# Altium schematic symbol library Swage.SchLib: 218 symbols (part 1 of 5)
Pins are listed as number, name and electrical type; pins without a type are passive.

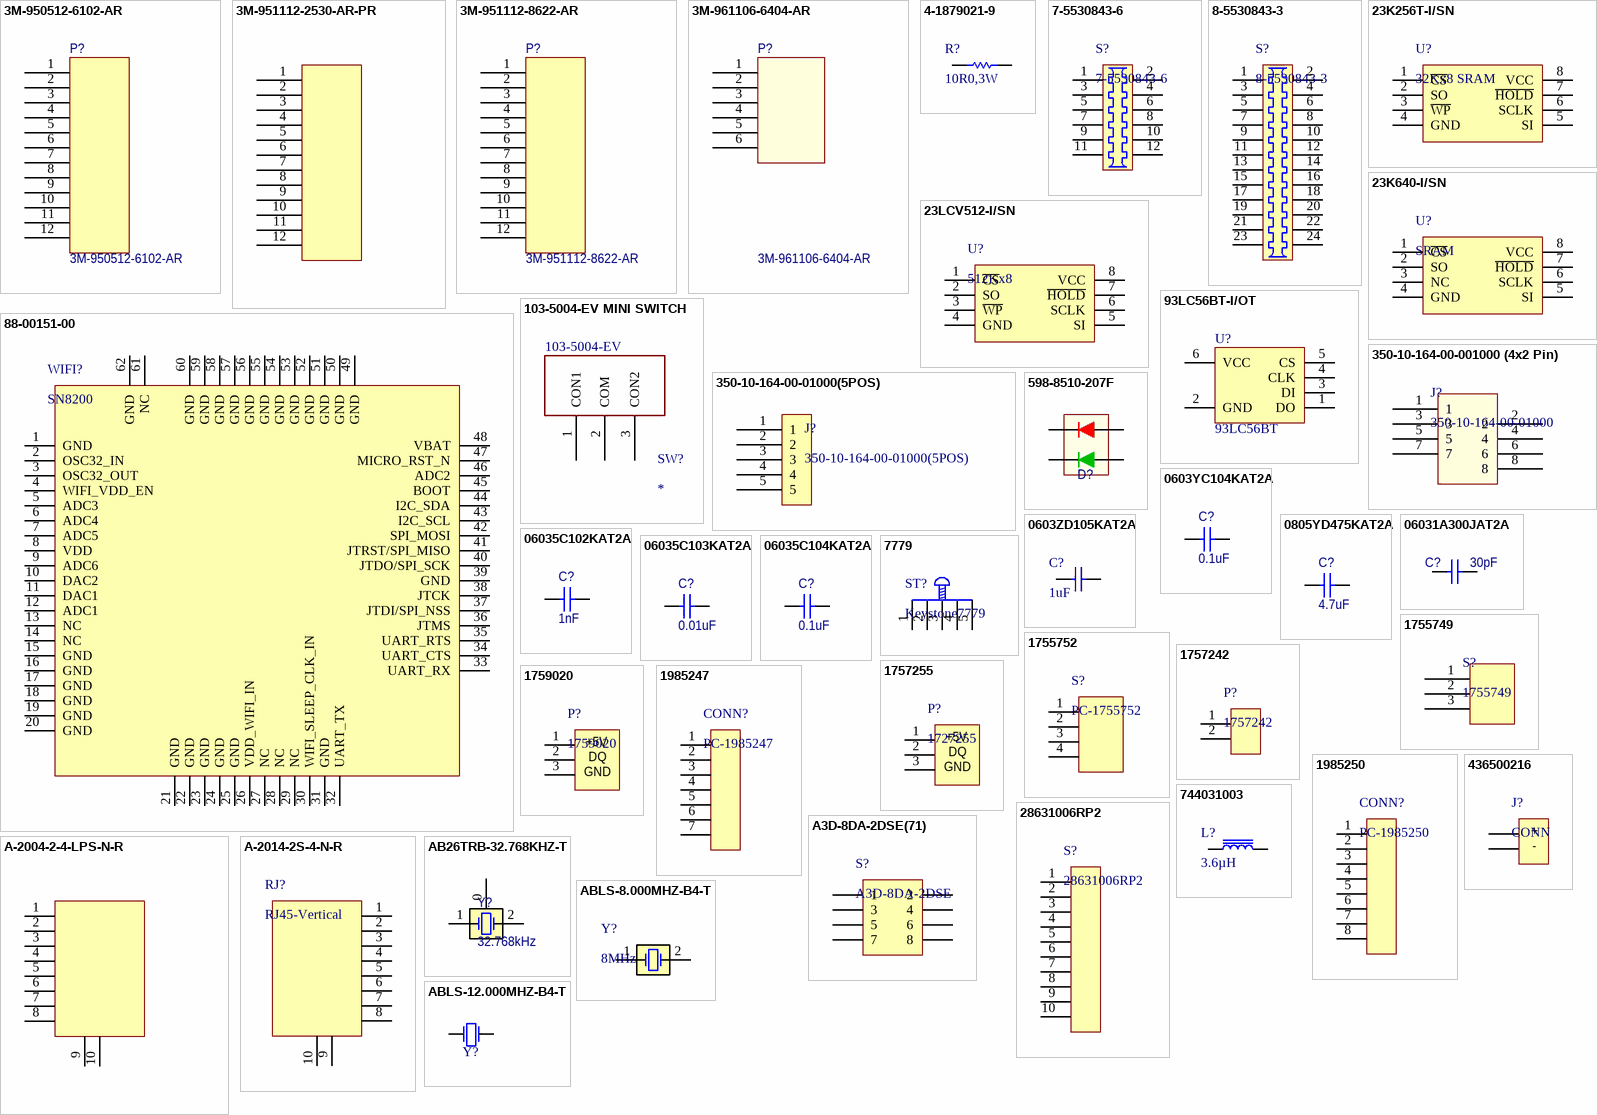
[diagram p0: symbols 3M-950512-6102-AR to ABLS-12.000MHZ-B4-T]

## 3M-950512-6102-AR
designator P?
CONN SOCKET 12POS 2MM VERT T/H; Manufacturer: 3M; Category 1: Connectors, Interconnects; Connector Type: Receptacle; Number of Positions: 12; Number of Positions Loaded: All; Pitch: 0.079" (2.00mm); OPI_VID: 101515; Supplier 1: Digi-Key; Supplier Part Number 1: 3M9406-ND; RoHS 1: RoHS Compliant; Description 1: CONN SOCKET 12POS 2MM VERT T/H; Stock 1: 2590; Pricing 1: 1=2.31, 25=1.9756, 50=1.8896, 100=1.8037, 250=1.63196, 500=1.50312, 1000=1.28839, 2500=1.2025, 5000=1.14237 (CAD); Packaging: Tube; Contact Type: Female Socket; Number of Rows: 1; Row Spacing: -; Mounting Type: Through Hole; Termination: Solder; Fastening Type: -; Features: -; Contact Finish: Gold; Contact Finish Thickness: Flash; Color: Black; ComponentLink1URL: http://multimedia.3m.com/mws/mediawebserver?66666UuZjcFSLXTtmXMEm8TaEVuQEcuZgVs6EVs6E666666--; ComponentLink1Description: http://multimedia.3m.com/mws/mediawebserver?66666UuZjcFSLXTtmXMEm8TaEVuQEcuZgVs6EVs6E666666--; Manufacturer Part Number: 950512-6102-AR
footprint HEADER1X12-2MM (Connector, Header, Male, 2mm pitch)
pins: 1, 2, 3, 4, 5, 6, 7, 8, 9, 10, 11, 12

## 3M-951112-2530-AR-PR
designator P?
CONN HEADER 12POS 2MM VERT SMD; Manufacturer: 3M; Connector Type: Header, Unshrouded; Number of Positions: 12; Number of Positions Loaded: All; Pitch: 0.079" (2.00mm); OPI_VID: xxxxx; Supplier 1: Digi-Key; Supplier Part Number 1: 3M9345TR-ND; Manufacturer Part Number: 951112-2530-AR-PR; RoHS: RoHS Compliant; Category: Connectors, Interconnects; Stock 1: 500; Pricing 1: 500=1.3908, 1000=1.19211, 1500=1.15237, 2500=1.11264, 5000=1.05701, 12500=1.03316 (CAD); Packaging: Tape & Reel (TR); Contact Type: Male Pin; Number of Rows: 1; Row Spacing: -; Contact Mating Length: 0.157" (4.00mm); Mounting Type: Surface Mount; Termination: Solder; Fastening Type: -; Features: -; Contact Finish: Gold; Contact Finish Thickness: Flash; Color: Black; ComponentLink1URL: http://multimedia.3m.com/mws/mediawebserver?66666UuZjcFSLXTtmxTXmXfEEVuQEcuZgVs6EVs6E666666--; ComponentLink1Description: http://multimedia.3m.com/mws/mediawebserver?66666UuZjcFSLXTtmxTXmXfEEVuQEcuZgVs6EVs6E666666--
footprint HEADER1X12-2MM SMT (Connector, Header, 1x12 positions, Male, 2mm pitch, Surface Mount)
pins: 1, 2, 3, 4, 5, 6, 7, 8, 9, 10, 11, 12

## 3M-951112-8622-AR
designator P?
CONN HEADER 12POS 2MM VERT T/H; Manufacturer: 3M; Connector Type: Header, Unshrouded; Number of Positions: 12; Number of Positions Loaded: All; Pitch: 0.079" (2.00mm); OPI_VID: 101439; Supplier 1: Digi-Key; Supplier Part Number 1: 3M9330-ND; Manufacturer Part Number: 951112-8622-AR; RoHS: RoHS Compliant; Category: Connectors, Interconnects; Stock 1: 3694; Pricing 1: 1=0.85, 10=0.799, 25=0.7192, 50=0.6394, 100=0.6128, 250=0.55952, 500=0.53288, 1000=0.43962, 2500=0.39966 (CAD); Contact Type: Male Pin; Number of Rows: 1; Row Spacing: -; Contact Mating Length: 0.173" (4.40mm); Mounting Type: Through Hole; Termination: Solder; Fastening Type: -; Features: -; Contact Finish: Gold; Contact Finish Thickness: Flash; Color: Black; Packaging: Bulk; ComponentLink1URL: http://multimedia.3m.com/mws/mediawebserver?66666UuZjcFSLXTtmXMEmxMyEVuQEcuZgVs6EVs6E666666--; ComponentLink1Description: http://multimedia.3m.com/mws/mediawebserver?66666UuZjcFSLXTtmXMEmxMyEVuQEcuZgVs6EVs6E666666--
footprint HEADER1X12-2MM (Connector, Header, Male, 2mm pitch)
pins: 1, 2, 3, 4, 5, 6, 7, 8, 9, 10, 11, 12

## 3M-961106-6404-AR
designator P?
CONN HEADER 6POS 2MM VERT T/H; Manufacturer: 3M; Description 1: Headers & Wire Housings 6P STRT 1 ROW GOLD 5.5MM MATING PIN; Category 1: Headers & Wire Housings; Current Rating: 2 A; Mounting Angle: Straight; Brand: 3M Electronic Solutions Division; Pitch: 2.54 mm; Number of Positions / Contacts: 6; OPI_VID: 101440; Supplier 1: Mouser; Supplier Part Number 1: 517-9611066404AR; RoHS 1: RoHS Compliant; Stock 1: 1977; Pricing 1: 1=0.567, 100=0.404, 500=0.351, 1000=0.289, 2000=0.263, 5000=0.257, 10000=0.248, 25000=0.230 (AUD); Contact Plating: Gold; Housing Material: Thermoplastic; Number of Rows: 1; Operating Temperature Range: - 25 C to + 105 C; Series: 961; Termination Style: Through Hole; Type: Pin Strip; Contact Material: Copper Alloy; Mounting Style: -; Row Spacing: 2.54 mm; Contact Gender: Pin (Male); Product Category: .100" Pin Strip Headers; Product Type: Headers; Standard Pack Qty: 1600; RoHS - Mouser: Y; Minimum Order Quantity: 1; Reeling: False; ComponentLink1URL: http://www.mouser.com/ds/2/1/ts2181-30266.pdf; ComponentLink1Description: http://www.mouser.com/ds/2/1/ts2181-30266.pdf; Manufacturer Part Number: 961106-6404-AR
footprint HEADER1X6-2MM (Connector, Header, 1x6 positions, Male, 2mm pitch)
pins: 1 GND, 2 USB_5V, 3 HDMA, 4 HDPA, 5 GND, 6 OD_H

## 4-1879021-9
designator R?, comment 10R0,3W
RES 10.0 OHM 3W 5% SMD; Manufacturer: TE Connectivity; Manufacturer Part Number: 4-1879021-9; Resistance (Ohms): 10; Temperature Coefficient: ±200ppm/°C; OPI_VID: xxxxx; Supplier 1: Digi-Key; RoHS: RoHS Compliant; Category: Resistors; Stock 1: 5000; Pricing 1: 1000=0.23901, 2000=0.22672, 3000=0.21852, 5000=0.20486, 10000=0.19121, 25000=0.18165, 50000=0.17755 (CAD); Power (Watts): 3W; Composition: Wirewound; Features: -; Tolerance: ±5%; Package / Case: 4122 (10555 Metric), J-Lead; Supplier Device Package: SMD; Size / Dimension: 0.413" L x 0.217" W (10.50mm x 5.50mm); Height: 0.209" (5.30mm); Number of Terminations: 2; Packaging: Tape & Reel (TR); ComponentLink1URL: http://documents.tycoelectronics.com/commerce/DocumentDelivery/DDEController?Action=showdoc&DocId=Data+Sheet%7F1773242%7FC%7Fpdf%7FEnglish%7FENG_DS_1773242_C.pdf; ComponentLink1Description: http://documents.tycoelectronics.com/commerce/DocumentDelivery/DDEController?Action=showdoc&DocId=Data+Sheet%7F1773242%7FC%7Fpdf%7FEnglish%7FENG_DS_1773242_C.pdf; Supplier Part Number 1: A102104TR-ND
pins: 1, 2

## 7-5530843-6
designator S?
CONN EDGECARD 6POS .100 VERT; Manufacturer: TE Connectivity; Card Type: Multibus I; Gender: Female; Number of Positions: 12; Card Thickness: 0.054" ~ 0.070" (1.37mm ~ 1.78mm); Pitch: 0.100" (2.54mm); Material - Insulation: Polyester, Glass Filled; Read Out: Dual; OPI_VID: 101359; Supplier 1: Digi-Key; Manufacturer Part Number: 7-5530843-6; RoHS: RoHS Compliant; Category: Connectors, Interconnects; Stock 1: 2145; Pricing 1: 1=2.55, 10=2.316, 25=2.1748, 50=2.08, 100=1.9855, 250=1.79636, 500=1.65458, 1000=1.41821, 2500=1.32366 (CAD); Number of Positions/Bay/Row: -; Number of Rows: 2; Features: -; Mounting Type: Through Hole; Termination: Solder; Contact Material: Phosphor Bronze; Contact Finish: Gold; Contact Finish Thickness: 30µin (0.76µm); Contact Type: -; Color: Black; Packaging: Bulk; Flange Feature: -; Operating Temperature: -55°C ~ 85°C; ComponentLink1URL: http://www.te.com/commerce/DocumentDelivery/DDEController?Action=srchrtrv&DocNm=5530843&DocType=Customer+Drawing&DocLang=English; ComponentLink1Description: http://www.te.com/commerce/DocumentDelivery/DDEController?Action=srchrtrv&DocNm=5530843&DocType=Customer+Drawing&DocLang=English; Supplier Part Number 1: 7-5530843-6-ND
footprint EdgeConnector-6-12 (Connector, Edge, 2x6, PTH)
pins: 1  , 2  , 3  , 4  , 5  , 6  , 7  , 8  , 9  , 10  , 11  , 12  

## 8-5530843-3
designator S?
CONN SEC II 12 POS 100C/L; Manufacturer: TE Connectivity; Card Type: Multibus I; Gender: Female; Number of Positions: 24; Card Thickness: 0.054" ~ 0.070" (1.37mm ~ 1.78mm); Pitch: 0.100" (2.54mm); Material - Insulation: Polyester, Glass Filled; Read Out: Dual; OPI_VID: 101411; Supplier 1: Digi-Key; Manufacturer Part Number: 8-5530843-3; RoHS: RoHS Compliant; Category: Connectors, Interconnects; Stock 1: 652; Pricing 1: 1=1.74, 10=1.579, 50=1.4176, 100=1.3531, 250=1.22424, 500=1.12758, 1000=0.9665, 2500=0.90206, 5000=0.85696 (USD); Number of Positions/Bay/Row: -; Number of Rows: 2; Features: -; Mounting Type: Through Hole; Termination: Solder; Contact Material: Phosphor Bronze; Contact Finish: Gold; Contact Finish Thickness: 30µin (0.76µm); Contact Type: -; Color: Black; Packaging: Bulk; Flange Feature: -; Operating Temperature: -55°C ~ 85°C; ComponentLink1URL: http://www.te.com/commerce/DocumentDelivery/DDEController?Action=srchrtrv&DocNm=5530843&DocType=Customer+Drawing&DocLang=English; ComponentLink1Description: http://www.te.com/commerce/DocumentDelivery/DDEController?Action=srchrtrv&DocNm=5530843&DocType=Customer+Drawing&DocLang=English; Supplier Part Number 1: A101969-ND
footprint EdgeConnector-12-24 - duplicate (Connector, Edge, 2x12, PTH)
pins: 1, 2  , 3  , 4  , 5  , 6  , 7  , 8  , 9  , 10  , 11  , 12  , 13  , 14  , 15  , 16  , 17  , 18  , 19  , 20  , 21  , 22  , 23  , 24  

## 23K256T-I/SN
designator U?, comment 32Kx8 SRAM
IC SRAM 256KBIT 20MHZ 8SOIC; Manufacturer: Microchip Technology; Manufacturer Part Number: 23K256T-I/SN; Format - Memory: RAM; Memory Size: 256K (32K x 8); Interface: SPI Serial; Voltage - Supply: 2.7 V ~ 3.6 V; OPI_VID: 101391; Supplier 1: Digi-Key; RoHS: RoHS Compliant; Category: Integrated Circuits (ICs); Stock 1: 0; Pricing 1: 3300=1.10025 (CAD); Memory Type: SRAM; Speed: 20MHz; Operating Temperature: -40°C ~ 85°C; Package / Case: 8-SOIC (0.154", 3.90mm Width); Supplier Device Package: 8-SOIC N; Packaging: Tape & Reel (TR); ComponentLink1URL: http://ww1.microchip.com/downloads/en/DeviceDoc/22100F.pdf; ComponentLink1Description: http://ww1.microchip.com/downloads/en/DeviceDoc/22100F.pdf; Supplier Part Number 1: 23K256T-I/SN-ND
pins: 1 ~{CS}, 2 SO, 3 ~{WP}, 4 GND, 5 SI, 6 SCLK, 7 ~{HOLD}, 8 VCC

## 23K640-I/SN
designator U?, comment SRAM
IC SRAM 64KBIT 20MHZ 8SOIC; Manufacturer: Microchip Technology; Manufacturer Part Number: 23K640-I/SN; Format - Memory: RAM; Memory Size: 64K (8K x 8); Interface: SPI Serial; Voltage - Supply: 2.7 V ~ 3.6 V; OPI_VID: xxxxx; Supplier 1: Digi-Key; RoHS: RoHS Compliant; Category: Integrated Circuits (ICs); Stock 1: 500; Pricing 1: 1=0.93, 10=0.674, 25=0.652, 100=0.6194 (CAD); Memory Type: SRAM; Speed: 20MHz; Operating Temperature: -40°C ~ 85°C; Package / Case: 8-SOIC (0.154", 3.90mm Width); Supplier Device Package: 8-SOIC N; Packaging: Tube; ComponentLink1URL: http://ww1.microchip.com/downloads/en/DeviceDoc/22126E.pdf; ComponentLink1Description: http://ww1.microchip.com/downloads/en/DeviceDoc/22126E.pdf; Supplier Part Number 1: 23K640-I/SN-ND
pins: 1 ~{CS}, 2 SO, 3 NC, 4 GND, 5 SI, 6 SCLK, 7 ~{HOLD}, 8 VCC

## 23LCV512-I/SN
designator U?, comment 512Kx8
IC SRAM SPI 512K 2.5V 8SOIC; Manufacturer: Microchip Technology; Manufacturer Part Number: 23LCV512-I/SN; Format - Memory: RAM; Memory Type: NVSRAM (Non-Volatile SRAM); Memory Size: 512K (64K x 8); Speed: 20MHz; Interface: SPI Serial; Voltage - Supply: 2.5 V ~ 5.5 V; OPI_VID: 101391; Single Source: YES, 13 week lead time; Supplier 1: Digi-Key; RoHS: RoHS Compliant; Category: Integrated Circuits (ICs); Stock 1: 300; Pricing 1: 1=2.59, 10=1.847, 25=1.782, 100=1.7061 (CAD); Operating Temperature: -40°C ~ 85°C; Package / Case: 8-SOIC (0.154", 3.90mm Width); Supplier Device Package: 8-SOIC N; Packaging: Tube; Supplier Part Number 1: 23LCV512-I/SN-ND
footprint SOIC127P600X265-8N (SOIC, 8-Leads, Body 5.0x4.0mm (max), Pitch 1.27mm, IPC Medium Density)
pins: 1 ~{CS}, 2 SO, 3 ~{WP}, 4 GND, 5 SI, 6 SCLK, 7 ~{HOLD}, 8 VCC

## 88-00151-00
designator WIFI?, comment SN8200
WI-FI NETWORK CONTROLLER MODULE; Manufacturer: Murata Electronics North America; Manufacturer Part Number: 88-00151-00; Frequency: 2.4GHz ~ 2.4835GHz; Data Rate - Maximum: 54Mbps; Modulation or Protocol: 802.11 b/g/n; Power - Output: 20dBm; Sensitivity: -96dBm; Voltage - Supply: 2 V ~ 3.6 V; Current - Receiving: 110mA; Current - Transmitting: 370mA; Data Interface: PCB, Surface Mount; Antenna Connector: On-Board, Chip; OPI_VID: xxxxx; Supplier 1: Digi-Key; RoHS: RoHS Compliant; Category: RF/IF and RFID; Stock 1: 294; Pricing 1: 1=38.24, 10=37.286, 25=34.4176, 100=31.5493 (CAD); Packaging: Cut Tape (CT); Applications: General Purpose; Memory Size: -; Operating Temperature: -30°C ~ 85°C; Package / Case: Module; ComponentLink1URL: http://www.murata-ws.com/datastore/media/wifi_sn8200_ds.pdf; ComponentLink1Description: http://www.murata-ws.com/datastore/media/wifi_sn8200_ds.pdf; Supplier Part Number 1: 490-5884-1-ND
footprint SN8200 (Murata, WiFi Module, SN8200)
pins: 1 GND, 2 OSC32_IN, 3 OSC32_OUT, 4 WIFI_VDD_EN, 5 ADC3, 6 ADC4, 7 ADC5, 8 VDD, 9 ADC6, 10 DAC2, 11 DAC1, 12 ADC1, 13 NC, 14 NC, 15 GND, 16 GND, 17 GND, 18 GND, 19 GND, 20 GND, 21 GND, 22 GND, 23 GND, 24 GND, 25 GND, 26 VDD_WIFI_IN, 27 NC, 28 NC, 29 NC, 30 WIFI_SLEEP_CLK_IN, 31 GND, 32 UART_TX, 33 UART_RX, 34 UART_CTS, 35 UART_RTS, 36 JTMS, 37 JTDI/SPI_NSS, 38 JTCK, 39 GND, 40 JTDO/SPI_SCK, 41 JTRST/SPI_MISO, 42 SPI_MOSI, 43 I2C_SCL, 44 I2C_SDA, 45 BOOT, 46 ADC2, 47 MICRO_RST_N, 48 VBAT, 49 GND, 50 GND, 51 GND, 52 GND, 53 GND, 54 GND, 55 GND, 56 GND, 57 GND, 58 GND, 59 GND, 60 GND, 61 NC, 62 GND

## 93LC56BT-I/OT
designator U?, comment 93LC56BT
IC EEPROM 2KBIT 3MHZ SOT23-6; Manufacturer: Microchip Technology; Manufacturer Part Number: 93LC56BT-I/OT; Format - Memory: EEPROMs - Serial; Memory Size: 2K (128 x 16); Speed: 2MHz, 3MHz; Interface: Microwire, 3-Wire Serial; Voltage - Supply: 2.5 V ~ 5.5 V; OPI_VID: 101423; Supplier 1: Digi-Key; Stock 1: 11516; Memory Type: EEPROM; Operating Temperature: -40°C ~ 85°C; Package / Case: SOT-23-6; Supplier Device Package: SOT-23-6; Packaging: Cut Tape (CT); ComponentLink1URL: http://ww1.microchip.com/downloads/en/DeviceDoc/21794F.pdf; ComponentLink1Description: http://ww1.microchip.com/downloads/en/DeviceDoc/21794F.pdf; Supplier Part Number 1: 93LC56BT-I/OTCT-ND; RoHS: RoHS Compliant; Category: Integrated Circuits (ICs); Pricing 1: 1=0.35, 10=0.227, 25=0.2164, 100=0.2062 (CAD)
footprint SOT95P270X145-6N (SOT23, 6-Leads, Body 3.1x3.2mm (max), Pitch 0.95mm, IPC Medium Density)
pins: 1 DO, 2 GND, 3 DI, 4 CLK, 5 CS, 6 VCC

## 103-5004-EV MINI SWITCH
designator SW?  Supplier Part Number 1: 103-5004-EV
ON-OFF-ON SPDT PC SWITCH; Manufacturer: Mountain Switch; OPI_VID: 101552; Contact Current Rating: 3A at 120 VAC; Voltage Rating: 120VAC; Actuator: Extended, Top; Mounting Angle: Vertical; Travel: 4mm; Description 2: SWITCH MINI SLIDE 125V; Category 2: Switches; Contact Rating @ Voltage: 4A @ 125VAC; Actuator Type: Standard; Supplier 1: Mouser; Manufacturer Part Number: 103-5004-EV; Contact Form: SPDT; Switch Function: ON-OFF-ON; Termination Style: Solder Pin; Mounting Style: Through Hole; Contact Plating: Silver; Contact Material: Copper Alloy; Operating Temperature Range: -30C to +85C; Type: Slide Switch; Supplier 2: Digi-Key; Supplier Part Number 2: 679-1889-ND; Manufacturer 2: Apem Inc.; RoHS 2: RoHS Compliant; Stock 2: 1907; Pricing 2: 1=5.34, 50=4.96, 100=3.5114, 250=3.46516, 500=2.86454, 1000=2.67973, 5000=2.49492 (CAD); Circuit: SPDT; Mounting Type: Through Hole; Orientation: Vertical; ComponentLink1URL: http://www.apem.com/files/apem/brochures/switch-slide-25000N-ENG.pdf; ComponentLink1Description: http://www.apem.com/files/apem/brochures/switch-slide-25000N-ENG.pdf; Manufacturer Part Number 2: 25139NAH
footprint 103-5004-EV (Mini Slide Switch 103-5004-EV Mountain Switch)
pins: 1 CON1, 2 COM, 3 CON2

## 350-10-164-00-001000 (4x2 Pin)
designator J?, comment 350-10-164-00-01000
CONN STRIP HEADER 4x2POS 0.10; Manufacturer: 3M; Manufacturer Part Number: 2340-6111TG; OPI_VID: 100210; Vendor: Electrosonic
footprint A350-10-164-00-01000(5)
pins: 1, 2, 3, 4, 5, 6, 7, 8

## 350-10-164-00-01000(5POS)
designator J?
CONN STRIP HEADER 5 POS 100 MIL; Manufacturer: 3M; Manufacturer Part Number: 2340-6111TG; OPI_VID: 100210; Vendor: Electrosonic
footprint HDR1x5
pins: 1, 2, 3, 4, 5

## 598-8510-207F
designator D?  (value not drawn)
LED - SMD Red/Green WC 80/50mcd 645/570nm; Manufacturer: Dialight; Illumination Color: Red, Green; Lens Color/Style: Water Clear; Operating Voltage: 1.8 V; Wavelength: 635 nm, 565 nm; LED Size: 1208; Lens Shape: Semitube; Luminous Intensity: 60 mcd, 40 mcd; Operating Current: 20 mA; Viewing Angle: 160 deg; OPI_VID: 101419; Supplier 1: Mouser; Supplier Part Number 1: 645-598-8510-207F; Manufacturer Part Number: 598-8510-207F; RoHS: RoHS Compliant; Category: Standard LED - SMD; Stock 1: 44669; Pricing 1: 1=0.227, 25=0.181, 100=0.146, 250=0.118, 500=0.115, 1000=0.104, 3000=0.098, 6000=0.097, 12000=0.096 (CAD); Package / Case: 1208; Packaging: Reel; Mounting Style: SMD/SMT; Lens Dimensions: 2 mm x 1 mm; Maximum Operating Temperature: + 100 C; Minimum Operating Temperature: - 40 C; Product Category: LED SMD Standard; Standard Pack Qty: 3000; RoHS - Mouser: Y; Minimum Order Quantity: 1; Reeling: True; ComponentLink1URL: http://www.dialight.com/Assets/Brochures_And_Catalogs/Indication/MDEI5981208BI.pdf; ComponentLink1Description: http://www.dialight.com/Assets/Brochures_And_Catalogs/Indication/MDEI5981208BI.pdf
footprint Dialight-1208 (Dialight 598 Series SMD LED 1208 Package)
pins: 1 A, 2 K, 3 A, 4 K

## 0603YC104KAT2A
designator C?, comment 0.1uF
CAP CERM .1UF 10% 16V X7R 0603; Manufacturer Part Number: 0603YC104KAT2A; Manufacturer: AVX Corporation; Category 1: Capacitors; Capacitance: 0.1µF; OPI_VID: 100039; Supplier 1: Digi-Key; Supplier Part Number 1: 478-1239-2-ND; RoHS 1: RoHS Compliant; Description 1: CAP CERM .1UF 10% 16V X7R 0603; Stock 1: 5240000; Pricing 1: 4000=0.003, 12000=0.002, 24000=0.002 (USD); Voltage - Rated: 16V; Tolerance: ±10%; Temperature Coefficient: X7R; Mounting Type: Surface Mount, MLCC; Operating Temperature: -55°C ~ 125°C; Features: -; Applications: General Purpose; Ratings: -; Package / Case: 0603 (1608 Metric); Size / Dimension: 0.063" L x 0.031" W (1.60mm x 0.80mm); Thickness: 0.90mm Max; Lead Spacing: -; Packaging: Tape & Reel (TR); Lead Style: -; ComponentLink1URL: http://www.avx.com/docs/Catalogs/cx7r.pdf; ComponentLink1Description: http://www.avx.com/docs/Catalogs/cx7r.pdf
footprint RC0603 (Resistor, Capacitor, 0603)
pins: 1, 2

## 0603ZD105KAT2A
designator C?, comment 1uF
CAP CER 1UF 10V 10% X5R 0603; Manufacturer: AVX Corporation; Manufacturer Part Number: 0603ZD105KAT2A; Capacitance: 1.0µF; OPI_VID: 101481; Supplier 1: Digi-Key; RoHS: RoHS Compliant; Category: Capacitors; Stock 1: 88000; Pricing 1: 4000=0.01357, 8000=0.01239, 12000=0.0118, 28000=0.01121, 100000=0.00811 (CAD); Voltage - Rated: 10V; Tolerance: ±10%; Temperature Coefficient: X5R; Mounting Type: Surface Mount, MLCC; Operating Temperature: -55°C ~ 85°C; Applications: General Purpose; Ratings: -; Package / Case: 0603 (1608 Metric); Size / Dimension: 0.063" L x 0.032" W (1.60mm x 0.81mm); Height - Seated (Max): -; Thickness (Max): 0.035" (0.90mm); Lead Spacing: -; Features: -; Packaging: Tape & Reel (TR); Lead Style: -; ComponentLink1URL: http://www.avx.com/docs/Catalogs/cx5r.pdf; ComponentLink1Description: http://www.avx.com/docs/Catalogs/cx5r.pdf; Supplier Part Number 1: 478-1251-2-ND
footprint RC0603 (Resistor, Capacitor, 0603)
pins: 1, 2

## 0805YD475KAT2A
designator C?, comment 4.7uF
CAP CER 4.7UF 16V 10% X5R 0805; Manufacturer: AVX Corporation; Manufacturer Part Number: 0805YD475KAT2A; Category 1: Capacitors; Capacitance: 4.7µF; OPI_VID: 100034; Supplier 1: Digi-Key; Supplier Part Number 1: 478-5166-2-ND; RoHS 1: RoHS Compliant; Description 1: CAP CER 4.7UF 16V 10% X5R 0805; Stock 1: 111000; Pricing 1: 3000=0.216, 12000=0.168, 24000=0.16 (USD); Voltage - Rated: 16V; Tolerance: ±10%; Temperature Coefficient: X5R; Mounting Type: Surface Mount, MLCC; Operating Temperature: -55°C ~ 85°C; Features: -; Applications: General Purpose; Ratings: -; Package / Case: 0805 (2012 Metric); Size / Dimension: 0.079" L x 0.049" W (2.00mm x 1.25mm); Thickness: 1.40mm Max; Lead Spacing: -; Packaging: Tape & Reel (TR); Lead Style: -; ComponentLink1URL: http://www.avx.com/docs/Catalogs/cx5r.pdf; ComponentLink1Description: http://www.avx.com/docs/Catalogs/cx5r.pdf
footprint RC0805
pins: 1, 2

## 06031A300JAT2A
designator C?, comment 30pF
CAP CERM 30PF 5% 100V NP0 0603; Manufacturer: AVX Corporation; Manufacturer Part Number: 06031A300JAT2A; Temperature Coefficient: C0G, NP0; OPI_VID: 101418; Supplier 1: Digi-Key; Supplier Part Number 1: 478-3687-2-ND; RoHS: RoHS Compliant; Category: Capacitors; Stock 1: 20000; Pricing 1: 4000=0.03296, 12000=0.02552, 24000=0.02445 (CAD); Capacitance: 30pF; Voltage - Rated: 100V; Tolerance: ±5%; Mounting Type: Surface Mount, MLCC; Operating Temperature: -55°C ~ 125°C; Applications: General Purpose; Ratings: -; Package / Case: 0603 (1608 Metric); Size / Dimension: 0.063" L x 0.032" W (1.60mm x 0.81mm); Height - Seated (Max): -; Thickness (Max): 0.035" (0.90mm); Lead Spacing: -; Features: -; Packaging: Tape & Reel (TR); Lead Style: -; ComponentLink1URL: http://www.avx.com/docs/Catalogs/ccog.pdf; ComponentLink1Description: http://www.avx.com/docs/Catalogs/ccog.pdf
footprint CAPC1608X09N (Chip Capacitor, 2-Leads, Body 1.6x0.8mm, IPC Medium Density)
pins: 1, 2

## 06035C102KAT2A
designator C?, comment 1nF
CAP CERM 1000PF 10% 50V X7R 0603; Manufacturer: AVX Corporation; Manufacturer Part Number: 06035C102KAT2A; Category 1: Capacitors; OPI_VID: 101073; Supplier 1: Digi-Key; Supplier Part Number 1: 478-1215-6-ND; RoHS 1: RoHS Compliant; Description 1: CAP CERM 1000PF 10% 50V X7R 0603; Stock 1: 243594; Pricing 1: 10=0.02, 100=0.0117, 500=0.00676, 1000=0.00468 (USD); Capacitance: 1000pF; Voltage - Rated: 50V; Tolerance: ±10%; Temperature Coefficient: X7R; Mounting Type: Surface Mount, MLCC; Operating Temperature: -55°C ~ 125°C; Features: -; Applications: General Purpose; Ratings: -; Package / Case: 0603 (1608 Metric); Size / Dimension: 0.063" L x 0.031" W (1.60mm x 0.80mm); Thickness: 0.90mm Max; Lead Spacing: -; Packaging: Digi-Reel®; Lead Style: -; ComponentLink1URL: http://www.avx.com/docs/Catalogs/cx7r.pdf; ComponentLink1Description: http://www.avx.com/docs/Catalogs/cx7r.pdf
footprint RC0603 (Resistor, Capacitor, 0603)
pins: 1, 2

## 06035C103KAT2A
designator C?, comment 0.01uF
CAP CERM .01UF 10% 50V X7R 0603; Manufacturer: AVX Corporation; Manufacturer Part Number: 06035C103KAT2A; Category 1: Capacitors; Capacitance: 10000pF; OPI_VID: 101027; Supplier 1: Digi-Key; Supplier Part Number 1: 478-1227-2-ND; RoHS 1: RoHS Compliant; Description 1: CAP CERM .01UF 10% 50V X7R 0603; Stock 1: 1972000; Pricing 1: 4000=0.003, 12000=0.002, 24000=0.002 (USD); Voltage - Rated: 50V; Tolerance: ±10%; Temperature Coefficient: X7R; Mounting Type: Surface Mount, MLCC; Operating Temperature: -55°C ~ 125°C; Features: -; Applications: General Purpose; Ratings: -; Package / Case: 0603 (1608 Metric); Size / Dimension: 0.063" L x 0.031" W (1.60mm x 0.80mm); Thickness: 0.90mm Max; Lead Spacing: -; Packaging: Tape & Reel (TR); Lead Style: -; ComponentLink1URL: http://www.avx.com/docs/Catalogs/cx7r.pdf; ComponentLink1Description: http://www.avx.com/docs/Catalogs/cx7r.pdf
footprint CAPC1608X09N (Chip Capacitor, 2-Leads, Body 1.6x0.8mm, IPC Medium Density)
pins: 1, 2

## 06035C104KAT2A
designator C?, comment 0.1uF
CAP CER .10UF 50V X7R 10% 0603; Manufacturer: Kemet; Manufacturer Part Number: 06035C104KAT2A; Note: Footprint corresponds to dimensions for bulk cassette packaging. This case size has tightened tolerances.; OPI_VID: 101026; Published: 17-Jul-2002; LatestRevisionDate: 19-Mar-2004; LatestRevisionNote: Silkscreen size reduced.; DatasheetDocument: Mar-2001; PackageDocument: Mar-2001; PackageReference: 0603; Publisher: Altium Limited; Code_JEITA: 0603; Code_IPC: 1608 [0603]; ComponentLink1Description: Manufacturer Link; ComponentLink1URL: http://www.kemet.com/; ComponentLink2Description: Datasheet; ComponentLink2URL: http://www.kemet.com/kemet/web/homepage/kechome.nsf/vapubfilesname/F3102TA.pdf/$file/F3102TA.pdf; Supplier 1: Digi-Key; Supplier Part Number 1: 478-1239-2-ND; Value: 0.1uF
footprint RC0603 (Resistor, Capacitor, 0603)
pins: 1, 2

## 7779
designator ST?, comment Keystone7779
TERM SCREW SNAP-IN PC MNT; Manufacturer: Keystone Electronics; Manufacturer Part Number: 7779; Screw Size: 6-32; Number of Legs: 4; OPI_VID: 101479; Supplier 1: Digi-Key; Supplier Part Number 1: 7779K-ND; RoHS: RoHS Compliant; Category: Connectors, Interconnects; Stock 1: 759; Pricing 1: 1=0.5, 10=0.496, 50=0.35, 100=0.3363, 250=0.30196, 500=0.28822, 1000=0.24018, 2500=0.21959, 5000=0.20587 (CAD); Terminal Type: Screw Terminal, Power Tap; Termination: Press-Fit; Current Rating: -; Mounting Type: Through Hole, Right Angle; Features: Screw not Included; Contact Finish: Tin; Contact Material: Brass; Material - Insulation: -; Screw Material: -; Screw Finish: -; ComponentLink1URL: http://www.keyelco.com/userAssets/file/M60p62-64.pdf; ComponentLink1Description: http://www.keyelco.com/userAssets/file/M60p62-64.pdf
footprint Keystone7779 (Screw Terminal, Right Angle)
pins: 1, 2, 3, 4, 5

## 1755749
designator S?
CONN HEADER VERT 3POS 5.08MM; Manufacturer: Phoenix Contact; Positions Per Level: 3; Pitch: 0.200" (5.08mm); Number of Levels: 1; Header Orientation: Vertical; Current: 12A; Voltage: 300V; OPI_VID: 101412; Supplier 1: Digi-Key; Supplier Part Number 1: 277-1151-ND; Manufacturer Part Number: 1755749; RoHS: RoHS Compliant; Category: Connectors, Interconnects; Stock 1: 1407; Pricing 1: 1=0.87, 10=0.844, 50=0.7882, 100=0.7252, 250=0.66996, 500=0.63846, 1000=0.59904 (CAD); Terminal Block Type: Header, Male Pins, Shrouded (4 Side); Plug Wire Entry: -; Termination: Solder; Wire Gauge: -; Mounting Type: Through Hole; Features: -; Color: Green; Packaging: Bulk; ComponentLink1URL: http://media.digikey.com/pdf/Data%20Sheets/Phoenix%20Contact%20PDFs/1755749.pdf; ComponentLink1Description: http://media.digikey.com/pdf/Data%20Sheets/Phoenix%20Contact%20PDFs/1755749.pdf
footprint PC-1755749 (Connector, Phoenix Contact, 3 Position)
pins: 1, 2, 3

## 1755752
designator S?, comment PC-1755752
CONN HEADER VERT 4POS 5.08MM; Manufacturer: Phoenix Contact; Positions Per Level: 4; Pitch: 0.200" (5.08mm); Number of Levels: 1; Header Orientation: Vertical; Current: 12A; Voltage: 300V; OPI_VID: 101444; Supplier 1: Digi-Key; Supplier Part Number 1: 277-1152-ND; Manufacturer Part Number: 1755752; RoHS: RoHS Compliant; Category: Connectors, Interconnects; Stock 1: 1096; Pricing 1: 1=1.14, 10=1.117, 50=1.0436, 100=0.9601, 250=0.887, 500=0.84528, 1000=0.7931 (CAD); Terminal Block Type: Header, Male Pins, Shrouded (4 Side); Plug Wire Entry: -; Termination: Solder; Wire Gauge: -; Mounting Type: Through Hole; Features: -; Color: Green; Packaging: Bulk; ComponentLink1URL: http://media.digikey.com/pdf/Data%20Sheets/Phoenix%20Contact%20PDFs/1755752.pdf; ComponentLink1Description: http://media.digikey.com/pdf/Data%20Sheets/Phoenix%20Contact%20PDFs/1755752.pdf
footprint PC-1755752 (Connector, Phoenix Contact, 4 Positions)
pins: 1, 2, 3, 4

## 1757242
designator P?
CONN HEADER RT ANG 2POS 5.08MM; Manufacturer: Phoenix Contact; Positions Per Level: 2; Pitch: 0.200" (5.08mm); Number of Levels: 1; Header Orientation: 90°, Right Angle; Current: 10A; Voltage: 300V; OPI_VID: 101326; Supplier 1: Digi-Key; Manufacturer Part Number: 1757242; RoHS: RoHS Compliant; Category: Connectors, Interconnects; Stock 1: 3347; Pricing 1: 1=0.52, 10=0.51, 50=0.4772, 100=0.439, 250=0.40556, 500=0.3865, 1000=0.36263 (CAD); Terminal Block Type: Header, Male Pins, Shrouded (4 Side); Plug Wire Entry: -; Termination: Solder; Wire Gauge: -; Mounting Type: Through Hole; Features: -; Color: Green; Packaging: Bulk; ComponentLink1URL: http://media.digikey.com/pdf/Data%20Sheets/Phoenix%20Contact%20PDFs/1757242.pdf; ComponentLink1Description: http://media.digikey.com/pdf/Data%20Sheets/Phoenix%20Contact%20PDFs/1757242.pdf; Supplier Part Number 1: 277-1106-ND
footprint PC-1757242 (Connector, 2 Pin, Right Angle, Phoenix Contact, PTH)
pins: 1, 2

## 1757255
designator P?, comment 1727255
CONN HEADER RT ANG 3POS 5.08MM; Manufacturer: Phoenix Contact; Manufacturer Part Number: 1757255; Positions Per Level: 3; Pitch: 0.200" (5.08mm); Number of Levels: 1; Header Orientation: 90°, Right Angle; Current: 10A; Voltage: 300V; OPI_VID: xxxxx; Supplier 1: Digi-Key; RoHS: RoHS Compliant; Category: Connectors, Interconnects; Stock 1: 212; Pricing 1: 1=0.85, 10=0.826, 50=0.7716, 100=0.7098, 250=0.65576, 500=0.62494, 1000=0.58636 (CAD); Terminal Block Type: Header, Male Pins, Shrouded (4 Side); Plug Wire Entry: -; Termination: Solder; Wire Gauge: -; Mounting Type: Through Hole; Features: -; Color: Green; Packaging: Bulk; ComponentLink1URL: http://media.digikey.com/pdf/Data%20Sheets/Phoenix%20Contact%20PDFs/1757255.pdf; ComponentLink1Description: http://media.digikey.com/pdf/Data%20Sheets/Phoenix%20Contact%20PDFs/1757255.pdf; Supplier Part Number 1: 277-1107-ND
footprint PC-1757255 (Connector, 3 Pin, Right Angle, Phoenix Contact, PTH)
pins: 1, 2, 3
text: +5V; DQ; GND

## 1759020
designator P?
CONN HEADER RT ANG 3POS 5.08MM; Manufacturer: Phoenix Contact; Positions Per Level: 3; Pitch: 0.200" (5.08mm); Number of Levels: 1; Header Orientation: 90°, Right Angle; Current: 10A; Voltage: 300V; OPI_VID: 101377; Supplier 1: Digi-Key; Manufacturer Part Number: 1759020; RoHS: RoHS Compliant; Category: Connectors, Interconnects; Stock 1: 4474; Pricing 1: 1=0.85, 10=0.826, 50=0.7716, 100=0.7098, 250=0.65576, 500=0.62494, 1000=0.58636 (CAD); Terminal Block Type: Header, Male Pins, Shrouded (2 Side); Plug Wire Entry: -; Termination: Solder; Wire Gauge: -; Mounting Type: Through Hole; Features: -; Color: Green; Packaging: Bulk; ComponentLink1URL: http://media.digikey.com/pdf/Data%20Sheets/Phoenix%20Contact%20PDFs/1759020.pdf; ComponentLink1Description: http://media.digikey.com/pdf/Data%20Sheets/Phoenix%20Contact%20PDFs/1759020.pdf; Supplier Part Number 1: 277-1096-ND
footprint PC-1759020 (Connector, 3 Pin, Right Angle, Phoenix Contact, PTH)
pins: 1, 2, 3
text: +5V; DQ; GND

## 1985247
designator CONN?, comment PC-1985247
TERM BLOCK PCB 7POS 3.5MM GREEN; Manufacturer: Phoenix Contact; Number of Levels: 1; Positions Per Level: 7; Pitch: 0.138" (3.50mm); Mating Orientation: 45° (135°) Angle with Board; Current: 2A; Voltage: 300V; Wire Gauge: 16-24 AWG; Wire Termination: Screwless - Spring Cage, Tension Clamp; OPI_VID: 101408; Supplier 1: Digi-Key; Manufacturer Part Number: 1985247; RoHS: RoHS Compliant; Category: Connectors, Interconnects; Stock 1: 0; Pricing 1: 1=0.76, 10=0.726, 50=0.7062, 100=0.66, 250=0.6072, 500=0.561 (USD); Mounting Type: Through Hole; Features: -; Color: Green; Packaging: Bulk; Operating Temperature: -; Housing Material: Polyamide (PA), Nylon; Contact Material - Plating: -; Clamp Material - Plating: -; Screw Material - Plating: -; Torque - Screw: -; Screw Thread: -; ComponentLink1URL: http://media.digikey.com/pdf/Data%20Sheets/Phoenix%20Contact%20PDFs/COMBICON%20Spring-Cage%20PCB%20Term.%20Blocks.pdf; ComponentLink1Description: http://media.digikey.com/pdf/Data%20Sheets/Phoenix%20Contact%20PDFs/COMBICON%20Spring-Cage%20PCB%20Term.%20Blocks.pdf; Supplier Part Number 1: 277-1627-ND
footprint PC-1985247 (Connector, Spring, 7 positions)
pins: 1, 2, 3, 4, 5, 6, 7

## 1985250
designator CONN?, comment PC-1985250
TERM BLOCK PCB 8POS 3.5MM GREEN; Manufacturer: Phoenix Contact; Number of Levels: 1; Positions Per Level: 8; Pitch: 0.138" (3.50mm); Mating Orientation: 45° (135°) Angle with Board; Current: 2A; Voltage: 300V; Wire Gauge: 16-24 AWG; Wire Termination: Screwless - Spring Cage, Tension Clamp; OPI_VID: 101356; Supplier 1: Digi-Key; Manufacturer Part Number: 1985250; RoHS: RoHS Compliant; Category: Connectors, Interconnects; Stock 1: 3617; Pricing 1: 1=0.9, 10=0.861, 50=0.8374, 100=0.7828, 250=0.72016, 500=0.66536 (CAD); Mounting Type: Through Hole; Features: -; Color: Green; Packaging: Bulk; Operating Temperature: -; Housing Material: Polyamide (PA), Nylon; Contact Material - Plating: -; Clamp Material - Plating: -; Screw Material - Plating: -; Torque - Screw: -; Screw Thread: -; ComponentLink1URL: http://www.phoenixcontact.com/online/portal/us/pxc/product_detail_page/!ut/p/b1/04_SjzQ0tTQ2MTMzM7TQj9CPykssy0xPLMnMz0vMAfGjzOJDnEJcXQOMzAz9A02dDDxdTJ1dfUyCDD38jIAKIvEocDQkTr8BDuBoQEh_uH4UXiUgF4AV4LHCzyM_N1U_NyrHzdJT1xEAasn7vg!!/dl4/d5/L0lDU0lKSmdrS0NsRUp; ComponentLink1Description: http://www.phoenixcontact.com/online/portal/us/pxc/product_detail_page/!ut/p/b1/04_SjzQ0tTQ2MTMzM7TQj9CPykssy0xPLMnMz0vMAfGjzOJDnEJcXQOMzAz9A02dDDxdTJ1dfUyCDD38jIAKIvEocDQkTr8BDuBoQEh_uH4UXiUgF4AV4LHCzyM_N1U_NyrHzdJT1xEAasn7vg!!/dl4/d5/L0lDU0lKSmdrS0NsRUp; Supplier Part Number 1: 277-1628-ND
footprint PTSA1.5/8-3.5-Z (Connector, ZIF, PC-1985250,)
pins: 1, 2, 3, 4, 5, 6, 7, 8

## 28631006RP2
designator S?
CONN RECEPTACLE 2MM 10-POS SMD; Manufacturer: Norcomp Inc.; Number of Positions: 10; Number of Positions Loaded: All; Pitch: 0.079" (2.00mm); OPI_VID: xxxxx; Supplier 1: Digi-Key; Manufacturer Part Number: 28631006RP2; RoHS: RoHS Compliant; Category: Connectors, Interconnects; Stock 1: 299; Pricing 1: 1=1.57, 10=1.419, 100=1.216, 500=1.01334, 1000=0.86857, 5000=0.77013, 10000=0.75276 (CAD); Connector Type: Receptacle; Contact Type: Female Socket; Number of Rows: 1; Row Spacing: -; Mounting Type: Surface Mount; Termination: Solder; Fastening Type: -; Features: -; Contact Finish: Gold; Contact Finish Thickness: Flash; Color: Black; Packaging: Tube; ComponentLink1URL: http://www.norcomp.net/rohspdfs/Head-Recep/2Y6Y/2863YY06RP2.pdf; ComponentLink1Description: http://www.norcomp.net/rohspdfs/Head-Recep/2Y6Y/2863YY06RP2.pdf; Supplier Part Number 1: 2863S-10-ND
pins: 1, 2, 3, 4, 5, 6, 7, 8, 9, 10

## 436500216
designator J?, comment CONN
CONN HEADER 2POS 3MM VERT GOLD; Manufacturer: Molex Inc; Manufacturer Part Number: 436500216; Connector Type: Header, Shrouded; Number of Positions: 2; Number of Positions Loaded: All; Pitch: 0.118" (3.00mm); OPI_VID: 101531; Supplier 1: Digi-Key; RoHS: RoHS Compliant; Category: Connectors, Interconnects; Stock 1: 29740; Pricing 1: 1=0.82, 10=0.766, 50=0.612, 100=0.5866, 250=0.53552, 500=0.51002, 1000=0.42077, 2500=0.38251, 5000=0.36976 (CAD); Contact Type: Male Pin; Number of Rows: 1; Row Spacing: -; Contact Mating Length: -; Mounting Type: Through Hole; Termination: Press-Fit; Fastening Type: Locking Ramp; Features: Board Guide; Contact Finish: Tin; Contact Finish Thickness: 100µin (2.54µm); Color: Black; Packaging: Tray; ComponentLink1URL: http://www.molex.com/pdm_docs/sd/436500215_sd.pdf; ComponentLink1Description: http://www.molex.com/pdm_docs/sd/436500215_sd.pdf; Supplier Part Number 1: WM1917-ND
footprint BATTERYCONNECTOR (Molex Header, 0436500215, 2Pin, 3MM)
pins: 1, 2
text: +

## 744031003
designator L?, comment 3.6µH
INDUCTOR POWER 3.6UH 1.38A SMD; Manufacturer: Wurth Electronics Inc; Manufacturer Part Number: 744031003; Current - Saturation: 1.1A; Type: Ferrite Core; Tolerance: ±30%; Shielding: Shielded; DC Resistance (DCR): 85 mOhm Max; Frequency - Self Resonant: 80MHz; Material - Core: Ferrite; Frequency - Test: 100kHz; OPI_VID: 101322; Supplier 1: Digi-Key; RoHS: RoHS Compliant; Category: Inductors, Coils, Chokes; Stock 1: 0; Pricing 1: 1000=0.76734 (CAD); Inductance: 3.6µH; Current: 1.38A; Current - Temperature Rise: -; Q @ Freq: -; Package / Case: 1515 (3838 Metric); Mounting Type: Surface Mount; Packaging: Tape & Reel (TR); Operating Temperature: -40°C ~ 125°C; ComponentLink1URL: http://katalog.we-online.de/kataloge/eisos/media/pdf/744031003.pdf; ComponentLink1Description: http://katalog.we-online.de/kataloge/eisos/media/pdf/744031003.pdf; Supplier Part Number 1: 732-1007-2-ND
footprint IND-WURTH (Precision Wire Wound Inductor, 2-Leads, Body 3.8x3.8mm, IPC Medium Density)
pins: A, B

## A3D-8DA-2DSE(71)
designator S?, comment A3D-8DA-2DSE
CONN RECEPT 8POS 2MM GOLD DIP; Manufacturer: Hirose Electric Co Ltd; Manufacturer Part Number: A3D-8DA-2DSE(71); Connector Type: Receptacle; Number of Positions: 8; Number of Positions Loaded: All; Pitch: 0.079" (2.00mm); OPI_VID: 101488; Supplier 1: Digi-Key; RoHS: RoHS Compliant; Category: Connectors, Interconnects; Stock 1: 14282; Pricing 1: 1=1.15, 10=0.898, 25=0.8368, 50=0.7606, 100=0.6846, 250=0.57812, 500=0.54768, 1000=0.48682, 2500=0.40467 (CAD); Contact Type: Female Socket; Number of Rows: 2; Row Spacing: 0.079" (2.00mm); Mounting Type: Through Hole; Termination: Solder; Fastening Type: -; Features: -; Contact Finish: Gold; Contact Finish Thickness: -; Color: Black; Packaging: Tube; ComponentLink1URL: http://www.hirose.co.jp/cataloge_hp/e62103032.pdf; ComponentLink1Description: http://www.hirose.co.jp/cataloge_hp/e62103032.pdf; Supplier Part Number 1: H10922-ND
footprint hirose-2x4 (A3D-8DA-2DSE, 2mm pitch, Female)
pins: 1, 2, 3, 4, 5, 6, 7, 8

## A-2004-2-4-LPS-N-R
designator RJ?, comment RJ45-RA
CONN MOD JACK R/A 8P8C SHIELDED; Manufacturer: Assmann WSW Components; Manufacturer Part Number: A-2004-2-4-LPS-N-R; Number of Positions/Contacts: 8p8c (RJ45, Ethernet); Number of Ports: 1; LED Color: Does Not Contain LED; Tab Direction: Down; OPI_VID: 101478; Supplier 1: Digi-Key; Supplier Part Number 1: AE10387-ND; RoHS: RoHS Compliant; Category: Connectors, Interconnects; Stock 1: 4816; Pricing 1: 1=1.18, 10=1.033, 25=0.9724, 50=0.932, 100=0.8915, 250=0.8104, 500=0.72938, 1000=0.64833, 2500=0.58755 (CAD); Packaging: Tray; Connector Type: Jack; Number of Rows: 1; Mounting Type: Through Hole; Orientation: 90° Angle (Right); Termination: Solder; Shielding: Shielded; Ratings: -; Features: Board Lock; Ingress Protection: -; Contact Material: Phosphor Bronze; Contact Finish: Gold; Contact Finish Thickness: 6µin (0.152µm); Housing Material: Polybutylene Terephthalate (PBT), Glass Filled; Operating Temperature: -40°C ~ 85°C; ComponentLink1URL: http://www.assmann.us/specs/A-2004-2-4-LPS-N-R_REV00.pdf; ComponentLink1Description: http://www.assmann.us/specs/A-2004-2-4-LPS-N-R_REV00.pdf
footprint A-2004-2-4-LPS-N-R (RJ45 Connector, Shielded, Right angle)
pins: 1, 2, 3, 4, 5, 6, 7, 8, 9, 10

## A-2014-2S-4-N-R
designator RJ?, comment RJ45-Vertical
CONN MOD JACK 8P8C SHIELDED; Manufacturer: Assmann WSW Components; Manufacturer Part Number: A-2014-2S-4-N-R; Number of Positions/Contacts: 8p8c (RJ45, Ethernet); Number of Ports: 1; LED Color: Does Not Contain LED; Tab Direction: User Selectable; OPI_VID: 101469; Supplier 1: Digi-Key; Supplier Part Number 1: AE10399-ND; RoHS: RoHS Compliant; Category: Connectors, Interconnects; Stock 1: 3298; Pricing 1: 1=1.33, 10=1.171, 25=1.1016, 50=1.0556, 100=1.0097, 250=0.91788, 500=0.82608, 1000=0.7343, 2500=0.66546 (CAD); Packaging: Tray; Connector Type: Jack; Number of Rows: 1; Mounting Type: Through Hole; Orientation: Vertical; Termination: Solder; Shielding: Shielded; Ratings: -; Features: Board Lock; Ingress Protection: -; Contact Material: Phosphor Bronze; Contact Finish: Gold; Contact Finish Thickness: 6µin (0.152µm); Housing Material: Polybutylene Terephthalate (PBT), Glass Filled; Operating Temperature: -40°C ~ 85°C; ComponentLink1URL: http://www.assmann.us/specs/A-2014-2S-4-N-R.pdf; ComponentLink1Description: http://www.assmann.us/specs/A-2014-2S-4-N-R.pdf
footprint A-2014-2S-4-N-R (RJ45 Connector, Vertical)
pins: 1, 2, 3, 4, 5, 6, 7, 8, 9, 10

## AB26TRB-32.768KHZ-T
designator Y?, comment 32.768kHz
CRYSTAL 32.768KHZ 12.5PF CYL SMD; Manufacturer: Abracon Corporation; Manufacturer Part Number: AB26TRB-32.768KHZ-T; Category 1: Crystals and Oscillators; Frequency Tolerance: ±20ppm; Operating Mode: Fundamental; OPI_VID: 101052; Supplier 1: Digi-Key; Supplier Part Number 1: 535-9033-2-ND; RoHS 1: RoHS Compliant; Description 1: CRYSTAL 32.768KHZ 12.5PF CYL SMD; Stock 1: 162000; Pricing 1: 2000=0.238, 6000=0.221, 10000=0.2125, 26000=0.204 (USD); Type: kHz Crystal (Tuning Fork); Frequency: 32.768kHz; Frequency Stability: -; Load Capacitance: 12.5pF; Operating Temperature: -40°C ~ 85°C; Mounting Type: Surface Mount; Package / Case: Cylindrical Can, Radial; Size / Dimension: 0.075" Dia x 0.236" L (1.90mm x 6.00mm); Height: 0.075" (1.90mm); Packaging: Tape & Reel (TR); ComponentLink1URL: http://www.abracon.com/Resonators/AB26TRB.pdf; ComponentLink1Description: http://www.abracon.com/Resonators/AB26TRB.pdf
footprint AB26TRB (Crystal, SMD, Leaded, Abracon)
pins: 0 BODY, 1 OSC1, 2 OSC2

## ABLS-8.000MHZ-B4-T
designator Y?, comment 8MHz
CRYSTAL 8.000 MHZ 18PF SMD; Manufacturer: Abracon Corporation; Manufacturer Part Number: ABLS-8.000MHZ-B4-T; Frequency Stability: ±50ppm; Frequency Tolerance: ±30ppm; ESR (Equivalent Series Resistance): 80 Ohm; Operating Mode: Fundamental; OPI_VID: xxxxx; Supplier 1: Digi-Key; RoHS: RoHS Compliant; Category: Crystals and Oscillators; Stock 1: 20000; Pricing 1: 1000=0.16514, 3000=0.15924, 5000=0.15334, 10000=0.14744, 25000=0.14154 (CAD); Type: MHz Crystal; Frequency: 8MHz; Load Capacitance: 18pF; Operating Temperature: -20°C ~ 70°C; Ratings: -; Mounting Type: Surface Mount; Package / Case: HC49/US; Size / Dimension: 0.449" L x 0.185" W (11.40mm x 4.70mm); Height: 0.165" (4.20mm); Packaging: Tape & Reel (TR); ComponentLink1URL: http://www.abracon.com/Resonators/abls.pdf; ComponentLink1Description: http://www.abracon.com/Resonators/abls.pdf; Supplier Part Number 1: 535-10212-2-ND
footprint ABLS (Crystal, SMD, HC/49US, Low Profile)
pins: 1 OSC1, 2 OSC2

## ABLS-12.000MHZ-B4-T
designator Y?, comment XTAL  (value not drawn)
CRYSTAL 12.000 MHZ 18PF SMD; Manufacturer: Abracon Corporation; Manufacturer Part Number: ABLS-12.000MHZ-B4-T; Frequency: 12MHz; Frequency Stability: ±50ppm; Frequency Tolerance: ±30ppm; Operating Mode: Fundamental; OPI_VID: xxxxx; Supplier 1: Digi-Key; Stock 1: 14095; Type: MHz Crystal; Load Capacitance: 18pF; Operating Temperature: -20°C ~ 70°C; Mounting Type: Surface Mount; Package / Case: HC49/US; Size / Dimension: 0.450" L x 0.190" W (11.40mm x 4.70mm); Height: 0.165" (4.20mm); Packaging: Cut Tape (CT); ComponentLink1URL: http://www.abracon.com/Resonators/abls.pdf; ComponentLink1Description: http://www.abracon.com/Resonators/abls.pdf; Supplier Part Number 1: 535-10218-1-ND; RoHS: RoHS Compliant; Category: Crystals and Oscillators; Pricing 1: 1=0.42, 10=0.369, 50=0.3234, 100=0.2552, 500=0.2155 (CAD)
footprint HC49US (HC49US SMD Low Profile Crystal)
pins: 1, 2

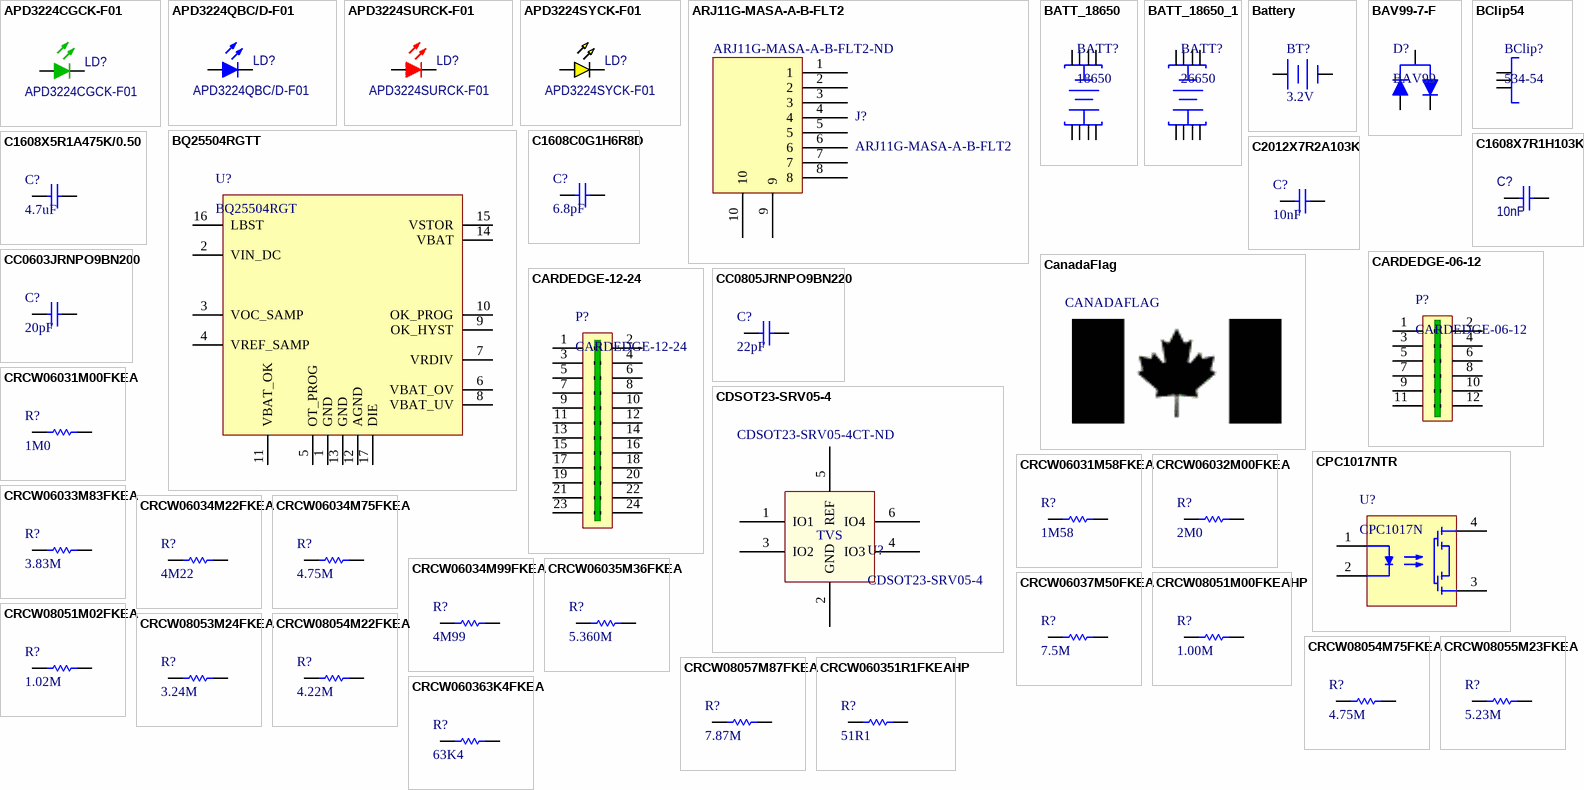
[diagram p1: symbols APD3224CGCK-F01 to CRCW060363K4FKEA]

## APD3224CGCK-F01
designator LD?
LED 3.2X2.4MM 574NM GRN CLR SMD; Manufacturer: Kingbright Corp; Color: Green; Millicandela Rating: 550mcd; Voltage - Forward (Vf) Typ: 2.1V; Current - Test: 20mA; Wavelength - Dominant: 570nm; Viewing Angle: 20°; Lens Type: Clear; Lens Style/Size: Round with Domed Top, 1.7mm; OPI_VID: 101167; Supplier 1: Digi-Key; Supplier Part Number 1: 754-1081-2-ND; Manufacturer Part Number: APD3224CGCK-F01; RoHS: RoHS Compliant; Category: Optoelectronics; Stock 1: 7500; Pricing 1: 1500=0.12653, 3000=0.11388, 7500=0.10755, 10500=0.09806, 37500=0.09174, 75000=0.08414, 150000=0.07908 (CAD); Wavelength - Peak: 574nm; Package / Case: 1210 (3225 Metric); Size / Dimension: 3.20mm L x 2.40mm W; Height: 2.40mm; Mounting Type: Surface Mount; Packaging: Tape & Reel (TR); Luminous Flux @ Current - Test: -; ComponentLink1URL: http://www.us.kingbright.com/images/catalog/SPEC/APD3224CGCK-F01.pdf; ComponentLink1Description: http://www.us.kingbright.com/images/catalog/SPEC/APD3224CGCK-F01.pdf
footprint LED-APD3224 (LED, 2-Leads, Body 3.2x2.4mm, IPC Medium Density)
pins: A, K

## APD3224QBC/D-F01
designator LD?
LED BLUE 470NM WTR CLEAR SMD; Manufacturer: Kingbright Corp; Millicandela Rating: 900mcd; Voltage - Forward (Vf) Typ: 3.3V; Current - Test: 20mA; Wavelength - Peak: 468nm; Viewing Angle: 20°; Lens Style/Size: Round with Domed Top, 1.7mm; OPI_VID: 101166; Supplier 1: Digi-Key; Supplier Part Number 1: 754-1493-2-ND; Manufacturer Part Number: APD3224QBC/D-F01; RoHS: RoHS Compliant; Category: Optoelectronics; Stock 1: 4500; Pricing 1: 1500=0.17565, 3000=0.16101, 7500=0.14637, 10500=0.13661, 37500=0.13173, 75000=0.12685, 150000=0.12198 (CAD); Color: Blue; Wavelength - Dominant: 470nm; Lens Type: Clear; Package / Case: 2-SMD, No Lead; Size / Dimension: 3.20mm L x 2.40mm W; Height: 2.40mm; Mounting Type: Surface Mount; Packaging: Tape & Reel (TR); Luminous Flux @ Current - Test: -; ComponentLink1URL: http://www.kingbrightusa.com/images/catalog/SPEC/APD3224QBC-D-F01.pdf; ComponentLink1Description: http://www.kingbrightusa.com/images/catalog/SPEC/APD3224QBC-D-F01.pdf
footprint LED-APD3224 (LED, 2-Leads, Body 3.2x2.4mm, IPC Medium Density)
pins: A, K

## APD3224SURCK-F01
designator LD?
LED 3.2X2.4MM 630NM RED CLR SMD; Manufacturer: Kingbright Corp; Millicandela Rating: 1000mcd; Voltage - Forward (Vf) Typ: 1.95V; Current - Test: 20mA; Wavelength - Peak: 650nm; Viewing Angle: 20°; Lens Type: Clear; Lens Style/Size: Round with Domed Top, 1.7mm; OPI_VID: 101168; Supplier 1: Digi-Key; Supplier Part Number 1: 754-1086-2-ND; Manufacturer Part Number: APD3224SURCK-F01; RoHS: RoHS Compliant; Category: Optoelectronics; Stock 1: 30000; Pricing 1: 1500=0.11367, 3000=0.1023, 7500=0.09661, 10500=0.08809, 37500=0.08241, 75000=0.07559, 150000=0.07104 (CAD); Color: Red; Wavelength - Dominant: 630nm; Package / Case: 1210 (3225 Metric); Size / Dimension: 3.20mm L x 2.40mm W; Height: 2.40mm; Mounting Type: Surface Mount; Packaging: Tape & Reel (TR); Luminous Flux @ Current - Test: -; ComponentLink1URL: http://www.us.kingbright.com/images/catalog/SPEC/APD3224SURCK-F01.pdf; ComponentLink1Description: http://www.us.kingbright.com/images/catalog/SPEC/APD3224SURCK-F01.pdf
footprint LED-APD3224 (LED, 2-Leads, Body 3.2x2.4mm, IPC Medium Density)
pins: A, K

## APD3224SYCK-F01
designator LD?
LED 3.2X2.4MM 590NM YLW CLR SMD; Manufacturer: Kingbright Corp; Color: Yellow; Millicandela Rating: 1300mcd; Voltage - Forward (Vf) Typ: 2V; Current - Test: 20mA; Viewing Angle: 20°; Lens Type: Clear; Lens Style/Size: Round with Domed Top, 1.7mm; OPI_VID: 101169; Supplier 1: Digi-Key; Supplier Part Number 1: 754-1087-2-ND; Manufacturer Part Number: APD3224SYCK-F01; RoHS: RoHS Compliant; Category: Optoelectronics; Stock 1: 21000; Pricing 1: 1500=0.11367, 3000=0.1023, 7500=0.09661, 10500=0.08809, 37500=0.08241, 75000=0.07559, 150000=0.07104 (CAD); Wavelength - Dominant: 590nm; Wavelength - Peak: 590nm; Package / Case: 1210 (3225 Metric); Size / Dimension: 3.20mm L x 2.40mm W; Height: 2.40mm; Mounting Type: Surface Mount; Packaging: Tape & Reel (TR); Luminous Flux @ Current - Test: -; ComponentLink1URL: http://www.us.kingbright.com/images/catalog/SPEC/APD3224SYCK-F01.pdf; ComponentLink1Description: http://www.us.kingbright.com/images/catalog/SPEC/APD3224SYCK-F01.pdf
footprint LED-APD3224 (LED, 2-Leads, Body 3.2x2.4mm, IPC Medium Density)
pins: A, K

## ARJ11G-MASA-A-B-FLT2
designator J?  Supplier Part Number 1: ARJ11G-MASA-A-B-FLT2-ND
RJ45 Connector, Vertical, Magnetics; Manufacturer: Abracon; OPI_VID: 101551; Description 2: CONN MAGJACK 1PORT 100 BASE-T; Category 2: Connectors, Interconnects; Number of Ports: 1; LED Color: Green - Yellow; Number of Cores per Jack: 4; Shielding: Shielded; Tab Direction: User Selectable; Supplier 1: Digi-Key; Manufacturer Part Number: ARJ11G-MASA-A-B-FLT2; Supplier 2: Digi-Key; Supplier Part Number 2: ARJ11G-MASA-A-B-ELT2-ND; Manufacturer 2: Abracon Corporation; Manufacturer Part Number 2: ARJ11G-MASA-A-B-ELT2; RoHS 2: RoHS Compliant; Stock 2: 46; Pricing 2: 1=8.18, 10=7.843, 50=6.82, 100=6.479, 500=5.45604, 750=5.11504, 1000=4.77404, 2500=4.53533, 5000=4.43303 (CAD); Packaging: Tray; Connector Type: RJ45; Number of Rows: 1; Applications: 10/100 Base-T, AutoMDIX; Mounting Type: Through Hole; Orientation: Vertical; Termination: Solder; Height Above Board: 0.669" (16.99mm); Features: Board Lock; Contact Material: -; Contact Finish: Gold; Contact Finish Thickness: 6µin (0.152µm); Shield Material: -; Housing Material: -; Operating Temperature: 0°C ~ 70°C; ComponentLink1URL: http://www.abracon.com/Magnetics/lan/ARJ11G.PDF; ComponentLink1Description: http://www.abracon.com/Magnetics/lan/ARJ11G.PDF
footprint A-2014-2S-4-N-R (RJ45 Connector, Vertical)
pins: 1, 2, 3, 4, 5, 6, 7, 8, 9, 10

## BATT_18650
designator BATT?, comment 18650
18650 LiFePO4 3.2V 1500mAh; Manufacturer: TACBattery; Manufacturer Part Number: 18650 3.2V 1500mAh with 5mm nickel tab; OPI_VID: 101318
footprint Battery_18650 (Battery, 18mm x 65mm, Keystone Clips + Solder Tabs)
pins: 1, 2, 3, 4, 5, 6, 7, 8

## BATT_18650_1
designator BATT?, comment 26650
26650 LiFePO4 3.2V 3300mAh; Manufacturer: TACBattery; Manufacturer Part Number: 26650 3.2V 1500mAh with wire; OPI_VID: 101392
footprint Battery_26650 (Battery, 26mm x 65mm, Keystone Clips + Solder Tabs)
pins: 1, 2, 3, 4, 5, 6, 7, 8

## Battery
designator BT?, comment 3.2V
18650 LiFePO4 3.2V 1500mAh; Manufacturer: TACBattery; Manufacturer Part Number: 18650 3.2V 1500mAh with 5mm nickel tab; OPI_VID: 101318; PackageReference: 18650; PackageDescription: Battery, 2 Leads, 18650, 1500mAh
footprint BATT-18650 (Battery, Cylindrical, 18mm x 65mm)
pins: 1 +, 2 -

## BAV99-7-F
designator D?, comment BAV99
DIODE SW DUAL 75V 350MW SOT23-3; Manufacturer: Diodes Inc; Manufacturer Part Number: BAV99-7-F; Voltage - Forward (Vf) (Max) @ If: 1.25V @ 150mA; Current - Reverse Leakage @ Vr: 2.5µA @ 75V; Current - Average Rectified (Io) (per Diode): 300mA (DC); Reverse Recovery Time (trr): 4ns; Diode Type: Standard; Speed: Fast Recovery =< 500ns, > 200mA (Io); Diode Configuration: 1 Pair Series Connection; OPI_VID: 101321; Supplier 1: Digi-Key; RoHS: RoHS Compliant; Category: Discrete Semiconductor Products; Stock 1: 297000; Pricing 1: 3000=0.02704, 6000=0.02439, 15000=0.02121, 30000=0.01909, 75000=0.01697, 150000=0.0141 (CAD); Voltage - DC Reverse (Vr) (Max): 75V; Mounting Type: Surface Mount; Package / Case: TO-236-3, SC-59, SOT-23-3; Supplier Device Package: SOT-23-3; Packaging: Tape & Reel (TR); ComponentLink1URL: http://www.diodes.com/datasheets/ds12007.pdf; ComponentLink1Description: http://www.diodes.com/datasheets/ds12007.pdf; Supplier Part Number 1: BAV99-FDITR-ND
footprint SOT23 (SOT-23; 3 Leads; Body 3.0 x 2.6 mm, inc. leads (LxW max))
pins: 1 A, 2 K, 3